# EAGLE library part USB-A (library gost_con_other)
Розетка USB-A угловая в плату.
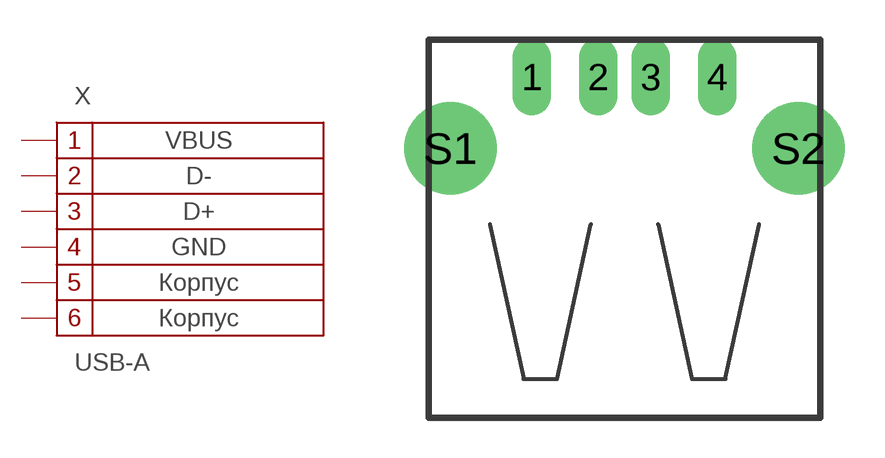
[diagram p7: symbol with the pads of USB-A(DS1095); footprint USB-A(DS1095)]

Designator prefix X

## USB-A  [USB-A(DS1095)]
1  1
2  2
3  3
4  4
S1  5
S2  6

## Footprint USB-A(DS1095) (pad centres in mm)
USB connector with shield
drill 0.95 long: 1 -3.5,2.71; 2 -1,2.71; 3 1,2.71; 4 3.5,2.71
drill 2.3 pad 3.5: S1 -6.57,0; S2 6.57,0